# Altium schematic symbol library Schlib_IMX7.SchLib: 58 symbols
Pins are listed as number, name and electrical type; pins without a type are passive.

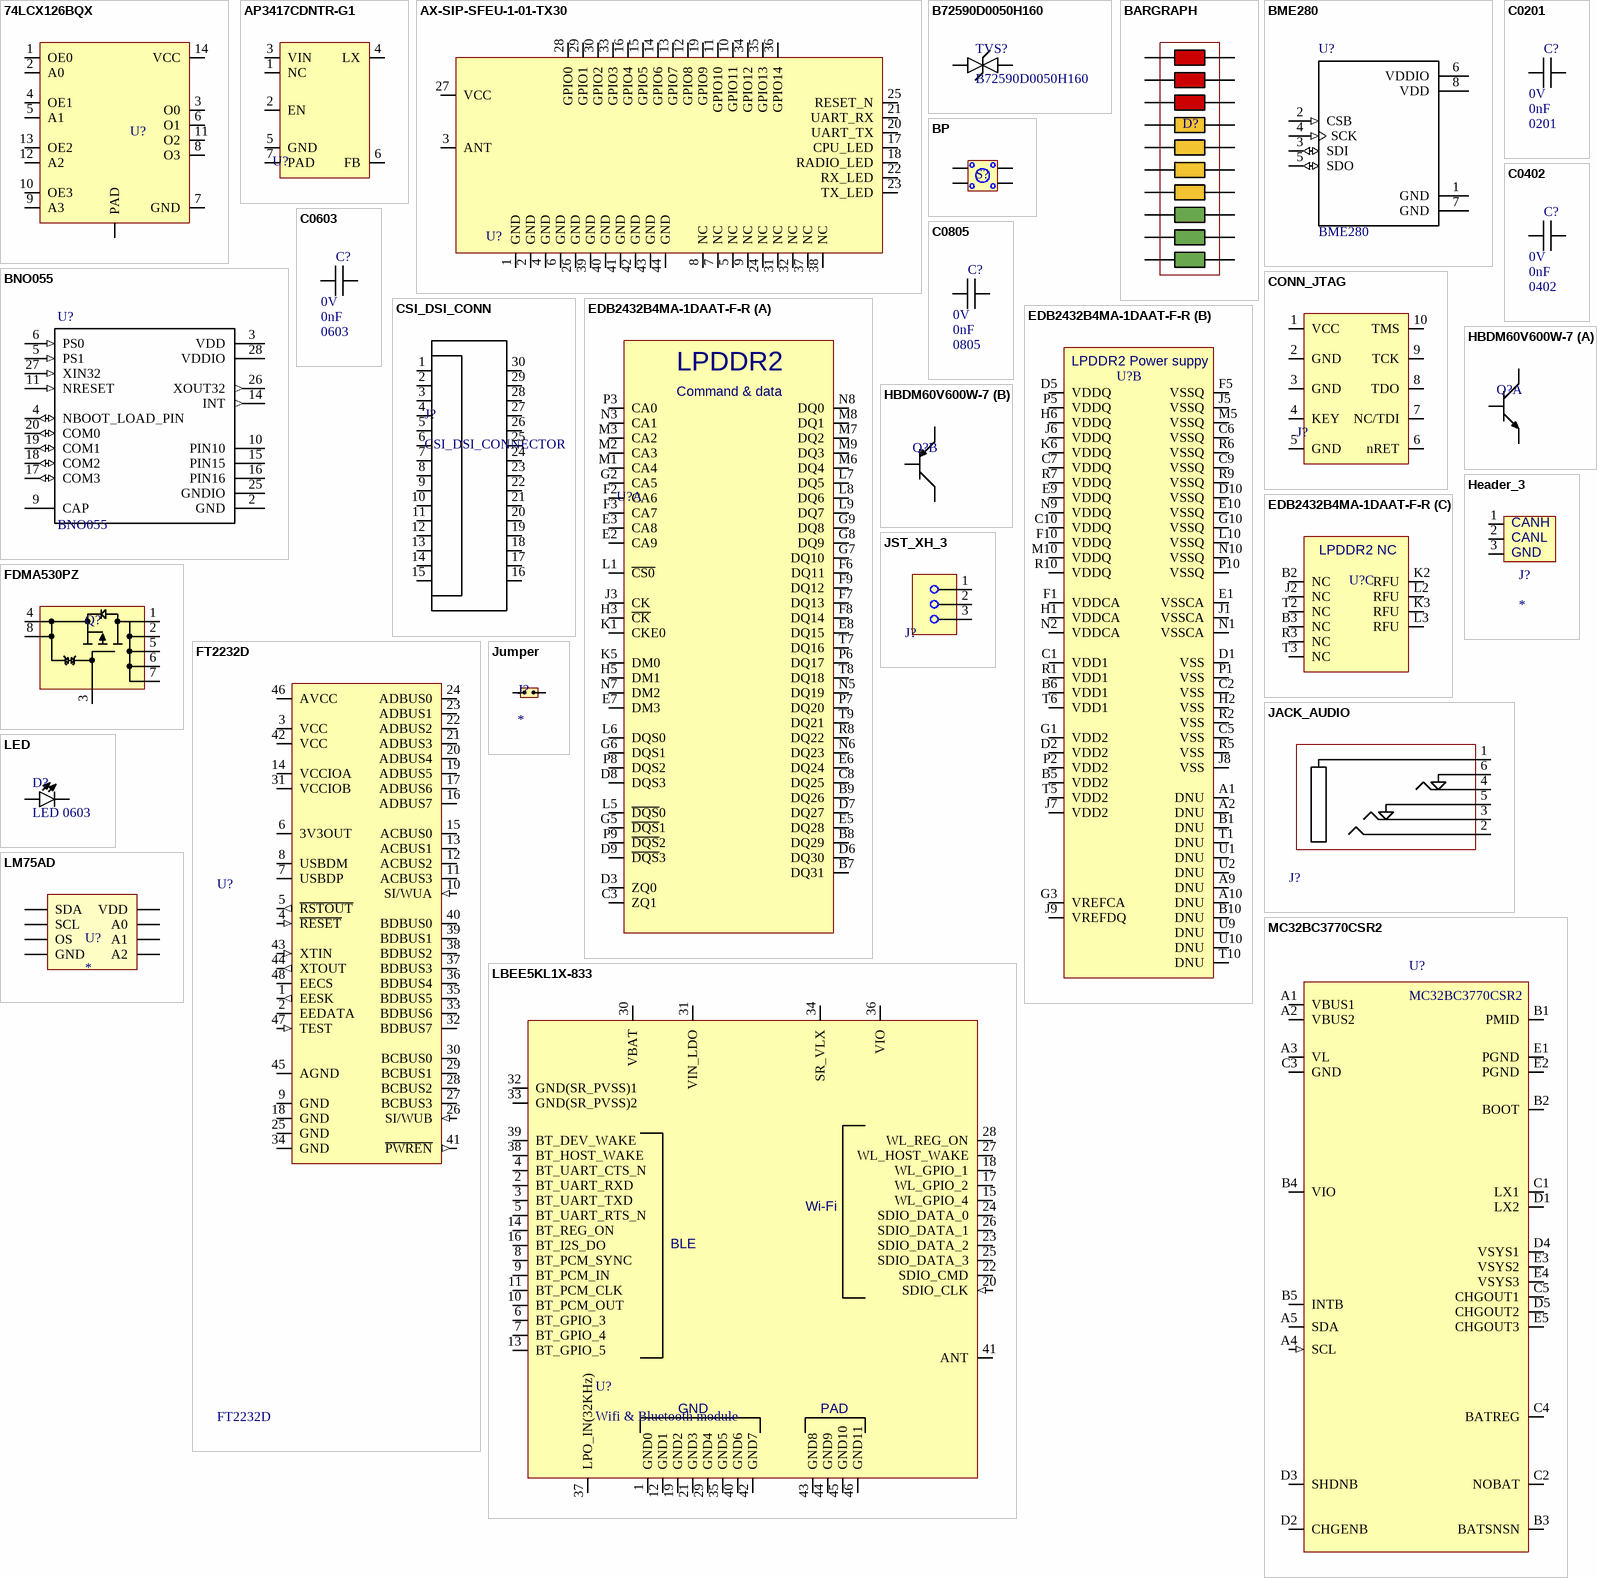
[diagram p0: symbols 74LCX126BQX to MC32BC3770CSR2]

## 74LCX126BQX
designator U?  (value not drawn)
footprint DQFN14
pins: 0 PAD, 1 OE0, 2 A0, 3 O0, 4 OE1, 5 A1, 6 O1, 7 GND, 8 O3, 9 A3, 10 OE3, 11 O2, 12 A2, 13 OE2, 14 VCC

## AP3417CDNTR-G1
designator U?  (value not drawn)
Supplier 1: Mouser; Supplier Part Number 1: 621-AP3417CDNTR-G1
footprint DFN2020
pins: 1 NC, 2 EN, 3 VIN, 4 LX, 5 GND, 6 FB, 7 PAD

## AX-SIP-SFEU-1-01-TX30
designator U?  (value not drawn)
footprint AX-SIP-SFEU-1-01-TX30
pins: 1 GND, 2 GND, 3 ANT  , 4 GND, 5 NC, 6 GND, 7 NC, 8 NC, 9 NC, 10 GPIO11, 11 GPIO10, 12 GPIO8, 13 GPIO7, 14 GPIO6, 15 GPIO5, 16 GPIO4, 17 CPU_LED, 18 RADIO_LED, 19 GPIO9, 20 UART_TX, 21 UART_RX, 22 RX_LED, 23 TX_LED, 24 NC, 25 RESET_N, 26 GND, 27 VCC, 28 GPIO0, 29 GPIO1, 30 GPIO2, 31 NC, 32 NC, 33 GPIO3, 34 GPIO12, 35 GPIO13, 36 GPIO14, 37 NC, 38 NC, 39 GND, 40 GND, 41 GND, 42 GND, 43 GND, 44 GND

## B72590D0050H160
designator TVS?
footprint R0402
pins: 1, 2

## BARGRAPH
designator D?  (value not drawn)
footprint BARGRAPH
pins: 1, 2, 3, 4, 5, 6, 7, 8, 9, 10, 11, 12, 13, 14, 15, 16, 17, 18, 19, 20

## BME280
designator U?
Integrated pressure, humidity and temperature sensor; 8-pin 2.5x2.5x0.93mm LGA; MF: Bosch; MP: BME280; Package: LGA-8 Bosch; Price: None; Availability: Unavailable; SnapEDA_Link: https://www.snapeda.com/parts/BME280/Bosch%20Sensortec/view-part/?ref=snap; Value: *
footprint PSON65P250X250X100-8N
pins: 1 GND (power), 2 CSB (in), 3 SDI (io), 4 SCK (in), 5 SDO (io), 6 VDDIO (power), 7 GND (power), 8 VDD (power)

## BNO055
designator U?
BNO055 9-axis Absolute Orientation Sensor _ SiP _ w/Sensors and Sensor Fusion; MF: Bosch; SnapEDA_Link: https://www.snapeda.com/parts/BNO055/Bosch%20Sensortec/view-part/?ref=snap; Availability: Unavailable; Price: None; MP: BNO055; Package: LGA-28 Bosch; Value: *
footprint LGA28R50P4X10_380X520X100
pins: 2 GND (power), 3 VDD (power), 4 NBOOT_LOAD_PIN (io), 5 PS1 (in), 6 PS0 (in), 9 CAP, 10 PIN10 (power), 11 NRESET (in), 14 INT (out), 15 PIN15 (power), 16 PIN16 (power), 17 COM3 (io), 18 COM2 (io), 19 COM1 (io), 20 COM0 (io), 25 GNDIO (power), 26 XOUT32 (out), 27 XIN32 (in), 28 VDDIO (power)

## BP
designator S?  (value not drawn)
Manufacturer: TE Connectivity (Tyco Electronics); Manufacturer Part Number: 1-1825027-4; Actuator Color: Ivory; Actuator Length: 3.55 mm; Body Orientation: Right Angle; Actuator Style: Round Button; Ground Terminal: No; Electrical Life: 100000 Cycles; Dielectric Strength: 500 VAC; Contact Rating @ Voltage: 0.05@24VDC A; Maximum DC Voltage Rating: 24 V; Pole Throw Configuration: SPST; Illumination Type: N/R; Maximum Contact Resistance: 100 mOhm; Operating Force: 1.57 N; Switch Configuration: OFF (ON); Contact Material: Copper Alloy; Base Material: N/A; Family: 1825027; Contact Plating: Silver; Housing Material: N/A; Dimension: 7.11 x 10.16 x 7.01 mm; Part No: 1-1825027-4; RoHS: Yes; Maximum AC Voltage Rating: N/A; Seal Description: N/A; Mechanical Life: N/A; Packaging: Loose Piece; Product Weight: N/A; Mounting: Through Hole,PC Pins; Minimum Insulation Resistance: 100 MOhm; Operating Temperature: -35 to 85 C; Type: Micro-Miniature; Seal Location: N/A; ComponentLink1URL: https://datasheet.ciiva.com/8164/eng-cd-1825027-g4-8164816.pdf; ComponentLink1Description: https://datasheet.ciiva.com/8164/eng-cd-1825027-g4-8164816.pdf; ComponentLink2URL: https://datasheet.ciiva.com/17550/eng-cd-1825027-g4-17550604.pdf; ComponentLink2Description: https://datasheet.ciiva.com/17550/eng-cd-1825027-g4-17550604.pdf
footprint BP
pins: 1, 2, 3, 4

## C0201
designator C?  value 0nF  PACKAGE: 0201  VOLTAGE: 0V
footprint C0201
pins: 1, 2

## C0402
designator C?  value 0nF  PACKAGE: 0402  VOLTAGE: 0V
footprint C0402
pins: 1, 2

## C0603
designator C?  value 0nF  PACKAGE: 0603  VOLTAGE: 0V
footprint C0603
pins: 1, 2

## C0805
designator C?  value 0nF  PACKAGE: 0805  VOLTAGE: 0V
footprint C0805
pins: 1, 2

## CONN_JTAG
designator J?  (value not drawn)
Supplier 1: Farnell; Supplier Part Number 1: 2112432
footprint JTAG_CONN
pins: 1 VCC, 2 GND, 3 GND, 4 KEY, 5 GND, 6 nRET, 7 NC/TDI, 8 TDO, 9 TCK, 10 TMS

## CSI_DSI_CONN
designator J?, comment CSI_DSI_CONNECTOR
footprint CSI_DSI
pins: 1, 2, 3, 4, 5, 6, 7, 8, 9, 10, 11, 12, 13, 14, 15, 16, 17, 18, 19, 20, 21, 22, 23, 24, 25, 26, 27, 28, 29, 30

## EDB2432B4MA-1DAAT-F-R
designator U?  (value not drawn)
footprint DDR_VFBGA
part A pins: B7 DQ31, B8 DQ29, B9 DQ26, C3 ZQ1, C8 DQ25, D3 ZQ0, D6 DQ30, D7 DQ27, D8 DQS3, D9 ~{DQS}3, E2 CA9, E3 CA8, E5 DQ28, E6 DQ24, E7 DM3, E8 DQ15, F2 CA6, F3 CA7, F6 DQ11, F7 DQ13, F8 DQ14, F9 DQ12, G2 CA5, G5 ~{DQS}1, G6 DQS1, G7 DQ10, G8 DQ9, G9 DQ8, H3 ~{CK}, H5 DM1, J3 CK, K1 CKE0, K5 DM0, L1 ~{CS0}, L5 ~{DQS}0, L6 DQS0, L7 DQ5, L8 DQ6, L9 DQ7, M1 CA4, M2 CA3, M3 CA2, M6 DQ4, M7 DQ2, M8 DQ1, M9 DQ3, N3 CA1, N5 DQ19, N6 DQ23, N7 DM2, N8 DQ0, P3 CA0, P6 DQ17, P7 DQ20, P8 DQS2, P9 ~{DQS}2, R8 DQ22, T7 DQ16, T8 DQ18, T9 DQ21
part B pins: A1 DNU, A2 DNU, A9 DNU, A10 DNU, B1 DNU, B5 VDD2, B6 VDD1, B10 DNU, C1 VDD1, C2 VSS, C5 VSS, C6 VSSQ, C7 VDDQ, C9 VSSQ, C10 VDDQ, D1 VSS, D2 VDD2, D5 VDDQ, D10 VSSQ, E1 VSSCA, E9 VDDQ, E10 VSSQ, F1 VDDCA, F5 VSSQ, F10 VDDQ, G1 VDD2, G3 VREFCA, G10 VSSQ, H1 VDDCA, H2 VSS, H6 VDDQ, J1 VSSCA, J5 VSSQ, J6 VDDQ, J7 VDD2, J8 VSS, J9 VREFDQ, K6 VDDQ, L10 VSSQ, M5 VSSQ, M10 VDDQ, N1 VSSCA, N2 VDDCA, N9 VDDQ, N10 VSSQ, P1 VSS, P2 VDD2, P5 VDDQ, P10 VSSQ, R1 VDD1, R2 VSS, R5 VSS, R6 VSSQ, R7 VDDQ, R9 VSSQ, R10 VDDQ, T1 DNU, T5 VDD2, T6 VDD1, T10 DNU, U1 DNU, U2 DNU, U9 DNU, U10 DNU
part C pins: B2 NC, B3 NC, J2 NC, K2 RFU, K3 RFU, L2 RFU, L3 RFU, R3 NC, T2 NC, T3 NC
part A text: LPDDR2; Command & data
part B text: LPDDR2 Power suppy
part C text: LPDDR2 NC

## FDMA530PZ
designator Q?  (value not drawn)
footprint MICROFET_2x2
pins: 1, 2, 3, 4, 5, 6, 7, 8

## FT2232D
designator U?
USB Full Speed to Dual Channel Serial UART/FIFO/JTAG/SPI/I2C IC - LQFP-48; MF: FTDI,; MP: FT2232D-REEL; SnapEDA_Link: https://www.snapeda.com/parts/FT2232D-REEL/FTDI%2C%20Future%20Technology%20Devices%20International%20Ltd/view-part/?ref=snap; Package: LQFP-48 FTDI; Digi-Key_Purchase_URL: https://www.digikey.com/product-detail/en/ftdi-future-technology-devices-international-ltd/FT2232D-REEL/768-1010-1-ND/1836405?utm_source=snapeda&utm_medium=aggregator&utm_campaign=symbol; Digi-Key_Part_Number: 768-1010-1-ND; Value: *
footprint LQFP48
pins: 1 EESK (out), 2 EEDATA (io), 3 VCC (power), 4 ~{RESET} (in), 5 ~{RSTOUT} (out), 6 3V3OUT (power), 7 USBDP (io), 8 USBDM (io), 9 GND (power), 10 SI/WUA (in), 11 ACBUS3 (io), 12 ACBUS2 (io), 13 ACBUS1 (io), 14 VCCIOA (power), 15 ACBUS0 (io), 16 ADBUS7 (io), 17 ADBUS6 (io), 18 GND (power), 19 ADBUS5 (io), 20 ADBUS4 (io), 21 ADBUS3 (io), 22 ADBUS2 (io), 23 ADBUS1 (io), 24 ADBUS0 (io), 25 GND (power), 26 SI/WUB (in), 27 BCBUS3 (io), 28 BCBUS2 (io), 29 BCBUS1 (io), 30 BCBUS0 (io), 31 VCCIOB (power), 32 BDBUS7 (io), 33 BDBUS6 (io), 34 GND (power), 35 BDBUS5 (io), 36 BDBUS4 (io), 37 BDBUS3 (io), 38 BDBUS2 (io), 39 BDBUS1 (io), 40 BDBUS0 (io), 41 ~{PWREN} (out), 42 VCC (power), 43 XTIN (in), 44 XTOUT (out), 45 AGND (power), 46 AVCC (power), 47 TEST (in), 48 EECS (io)

## HBDM60V600W-7
designator Q?  (value not drawn)
footprint SOT363
part A pins: 1 QB1, 5 EQ1, 6 CQ1
part B pins: 2 QB2, 3 CQ2, 4 EQ2

## Header_3
designator J?
footprint Header 3
pins: 1, 2, 3
text: CANH; CANL; GND

## JACK_AUDIO
designator J?  (value not drawn)
Supplier 1: Farnell; Supplier Part Number 1: 2613992
footprint JACK_AUDIO
pins: 1, 2, 3, 4, 5, 6

## JST_XH_3
designator J?  (value not drawn)
Supplier 1: Farnell; Supplier Part Number 1: 1516277
footprint JST-XH
pins: 1, 2, 3

## Jumper
designator J?
footprint Header 2
pins: 1, 2

## LBEE5KL1X-833
designator U?, comment Wifi & Bluetooth module
Supplier 1: Mouser; Supplier Part Number 1: 81-LBEE5KL1DX-883
footprint LBEE5KL1DX
pins: 1 GND0, 2 BT_UART_RXD, 3 BT_UART_TXD, 4 BT_UART_CTS_N, 5 BT_UART_RTS_N, 6 BT_GPIO_3, 7 BT_GPIO_4, 8 BT_PCM_SYNC, 9 BT_PCM_IN, 10 BT_PCM_OUT, 11 BT_PCM_CLK, 12 GND1, 13 BT_GPIO_5, 14 BT_REG_ON, 15 WL_GPIO_4, 16 BT_I2S_DO, 17 WL_GPIO_2, 18 WL_GPIO_1, 19 GND2, 20 SDIO_CLK (in), 21 GND3, 22 SDIO_CMD, 23 SDIO_DATA_2, 24 SDIO_DATA_0, 25 SDIO_DATA_3, 26 SDIO_DATA_1, 27 WL_HOST_WAKE, 28 WL_REG_ON, 29 GND4, 30 VBAT, 31 VIN_LDO, 32 GND(SR_PVSS)1, 33 GND(SR_PVSS)2, 34 SR_VLX, 35 GND5, 36 VIO, 37 LPO_IN(32KHz), 38 BT_HOST_WAKE, 39 BT_DEV_WAKE, 40 GND6, 41 ANT, 42 GND7, 43 GND8, 44 GND9, 45 GND10, 46 GND11
text: Wi-Fi; BLE; GND; PAD

## LED
designator D?, comment LED 0603
footprint D0603
pins: 1 A, 2 K

## LM75AD
designator U?
footprint SOIC 8
pins: 1 SDA, 2 SCL, 3 OS, 4 GND, 5 A2, 6 A1, 7 A0, 8 VDD

## MC32BC3770CSR2
designator U?
footprint BGA25x5
pins: A1 VBUS1, A2 VBUS2, A3 VL, A4 SCL (in), A5 SDA, B1 PMID, B2 BOOT, B3 BATSNSN, B4 VIO, B5 INTB, C1 LX1, C2 NOBAT, C3 GND, C4 BATREG, C5 CHGOUT1, D1 LX2, D2 CHGENB, D3 SHDNB, D4 VSYS1, D5 CHGOUT2, E1 PGND, E2 PGND, E3 VSYS2, E4 VSYS3, E5 CHGOUT3

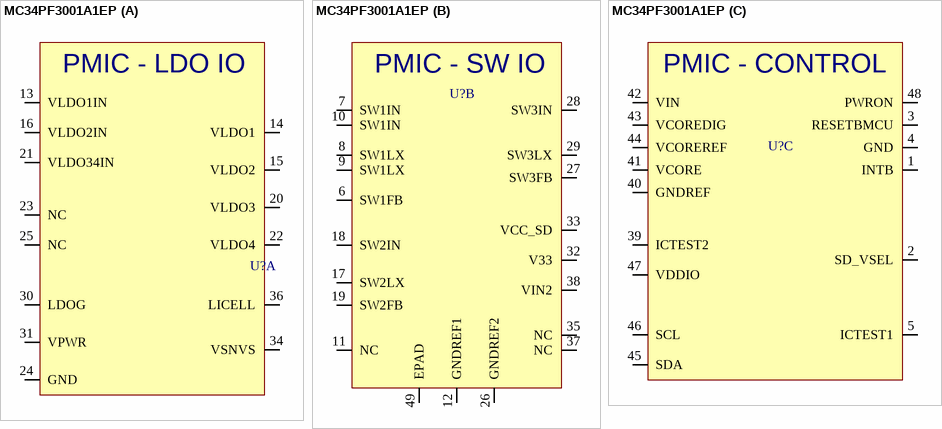
[diagram p1: symbol MC34PF3001A1EP]

## MC34PF3001A1EP
designator U?  (value not drawn)
Supplier 1: Mouser; Supplier Part Number 1: 841-MC34PF3001A1EP
footprint QFN48
part A pins: 13 VLDO1IN, 14 VLDO1, 15 VLDO2, 16 VLDO2IN, 20 VLDO3, 21 VLDO34IN, 22 VLDO4, 23 NC, 24 GND, 25 NC, 30 LDOG, 31 VPWR, 34 VSNVS, 36 LICELL
part B pins: 6 SW1FB, 7 SW1IN, 8 SW1LX, 9 SW1LX, 10 SW1IN, 11 NC, 12 GNDREF1, 17 SW2LX, 18 SW2IN, 19 SW2FB, 26 GNDREF2, 27 SW3FB, 28 SW3IN, 29 SW3LX, 32 V33, 33 VCC_SD, 35 NC, 37 NC, 38 VIN2, 49 EPAD
part C pins: 1 INTB, 2 SD_VSEL, 3 RESETBMCU, 4 GND, 5 ICTEST1, 39 ICTEST2, 40 GNDREF, 41 VCORE, 42 VIN, 43 VCOREDIG, 44 VCOREREF, 45 SDA, 46 SCL, 47 VDDIO, 48 PWRON
part A text: PMIC - LDO IO
part B text: PMIC - SW IO
part C text: PMIC - CONTROL

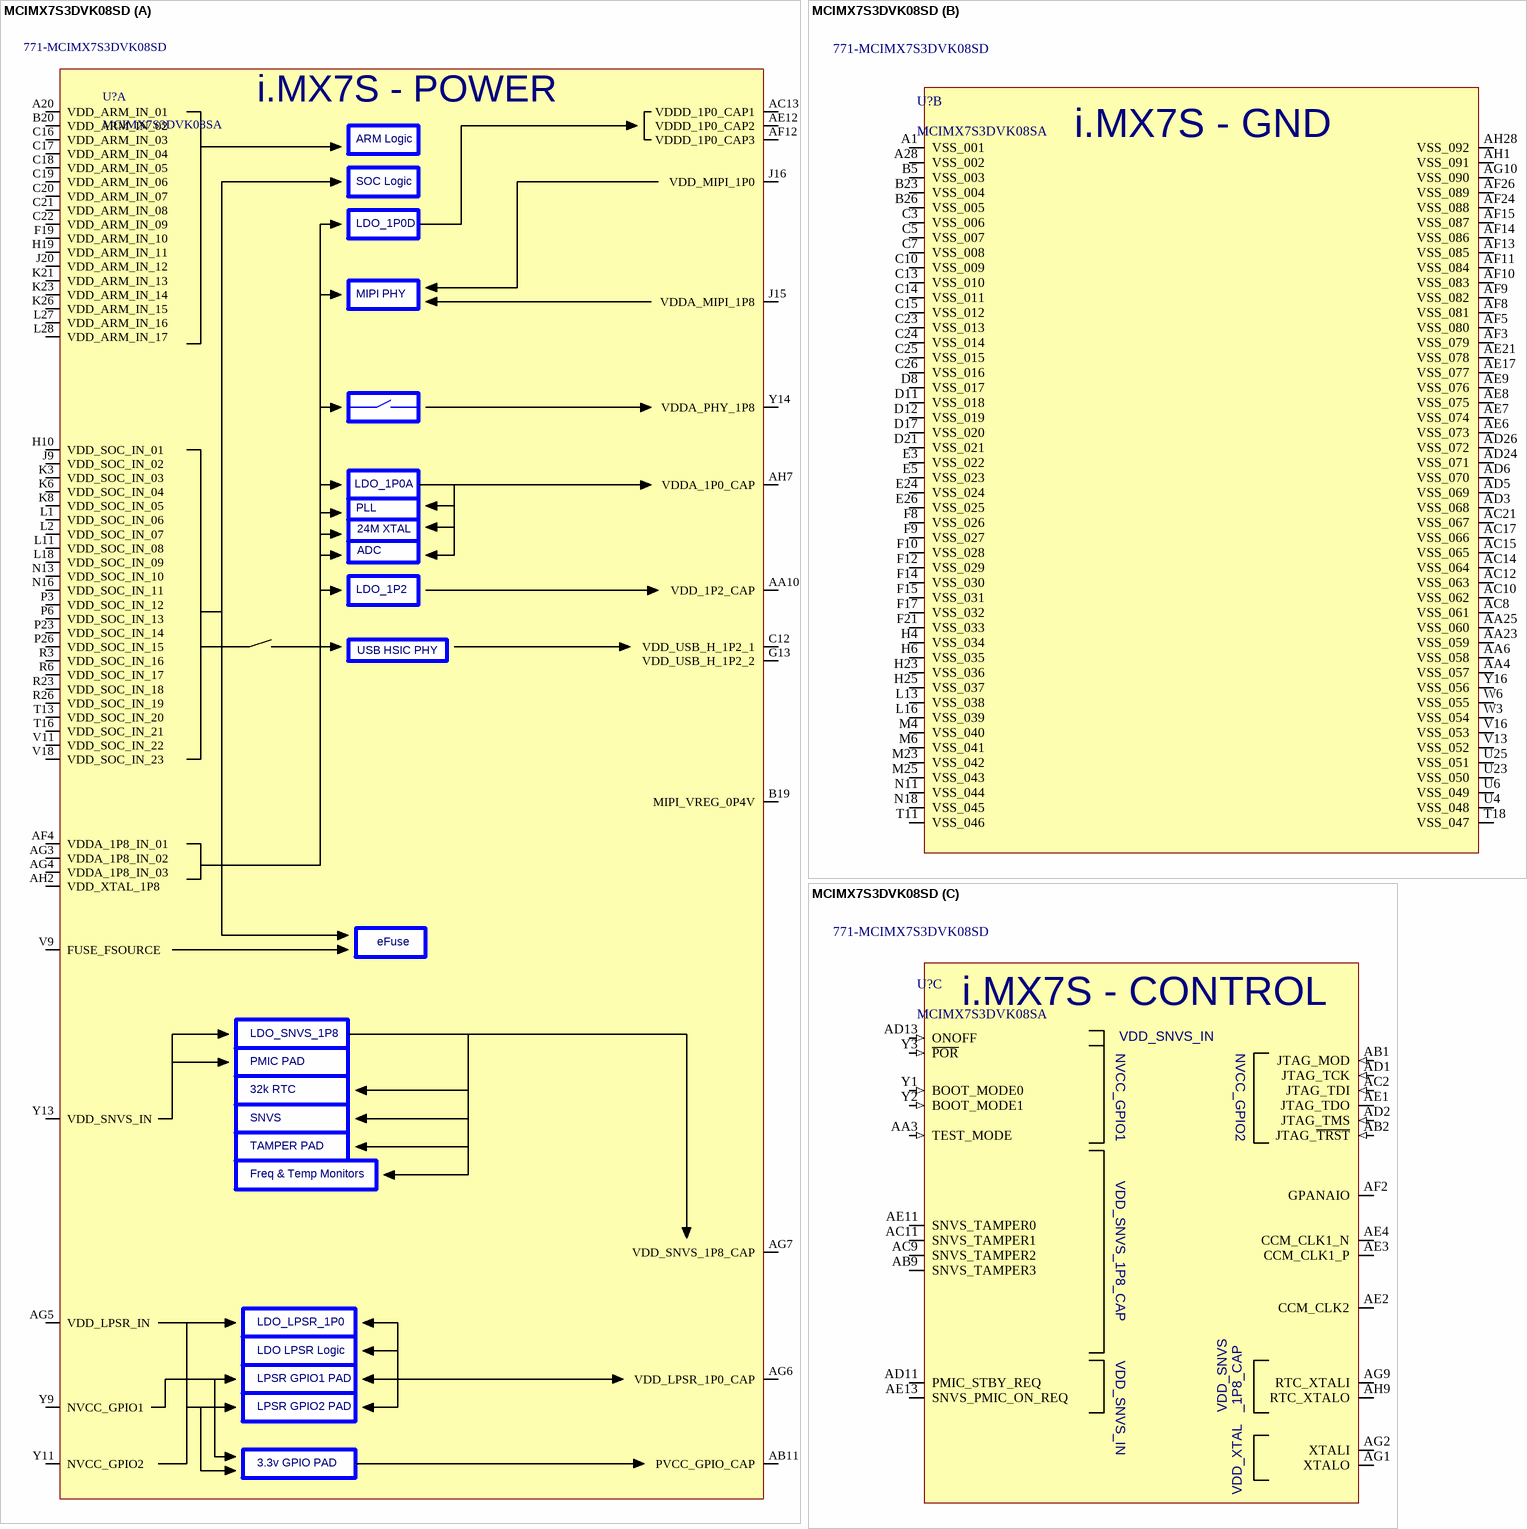
[diagram p2: symbol MCIMX7S3DVK08SD]

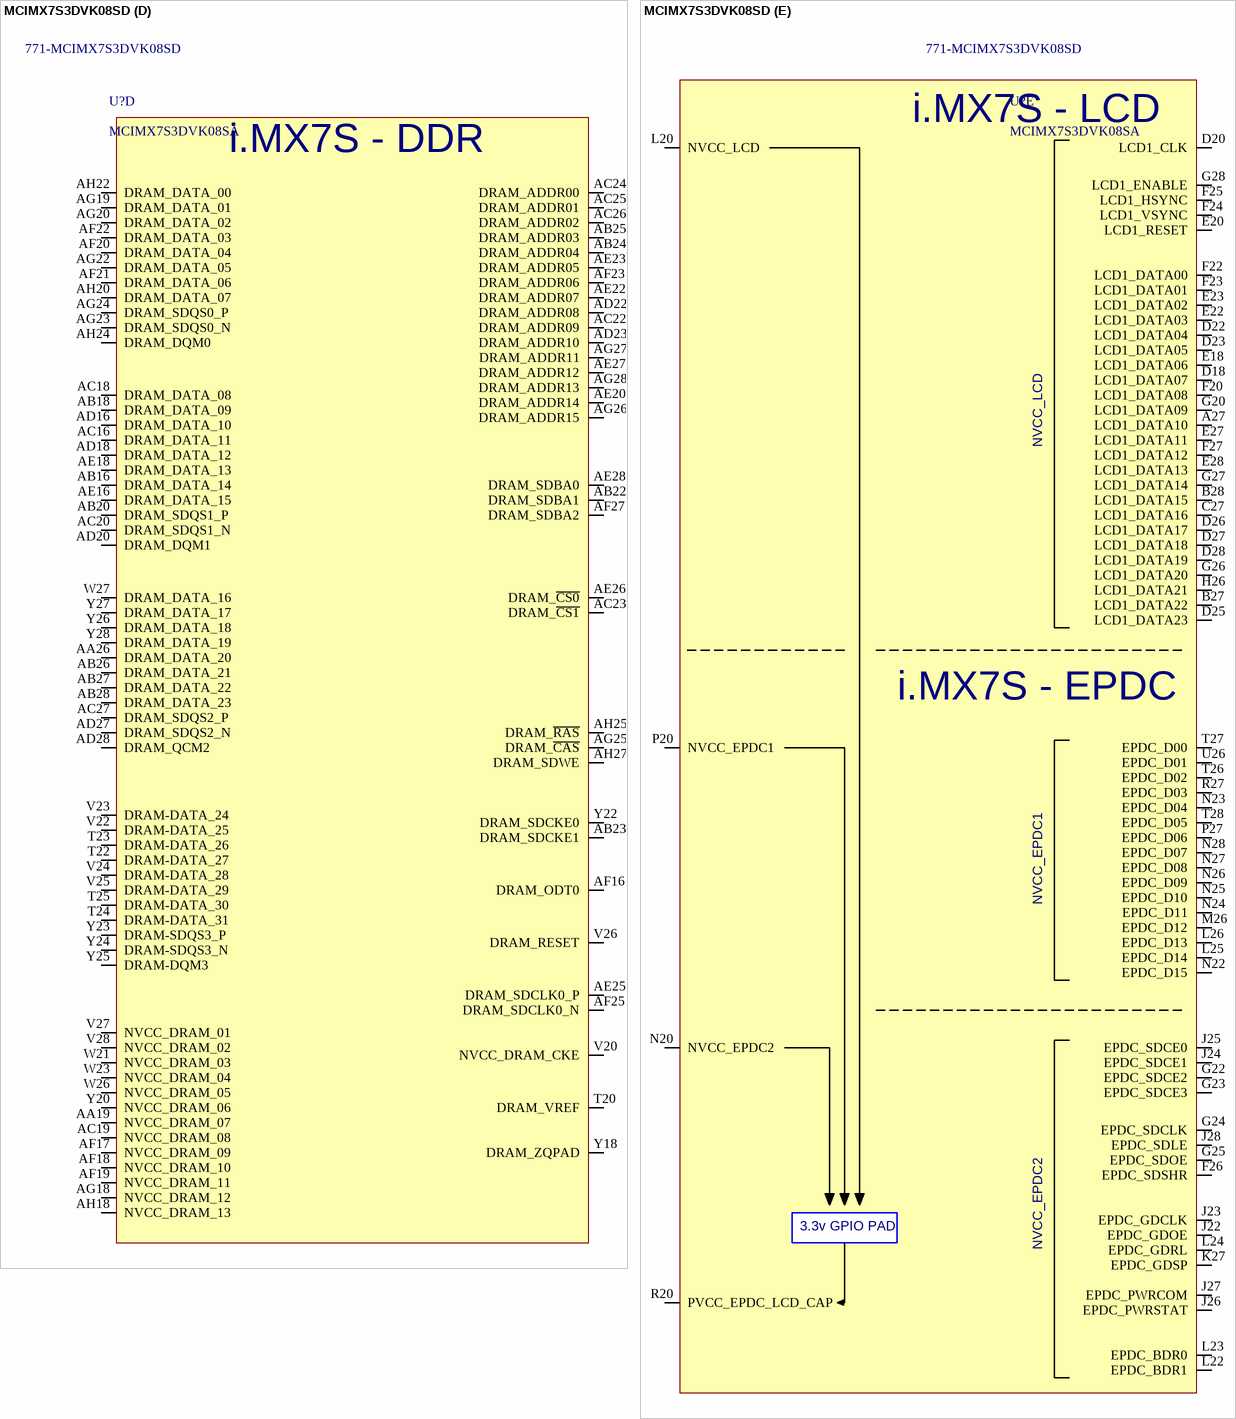
[diagram p3: symbol MCIMX7S3DVK08SD]

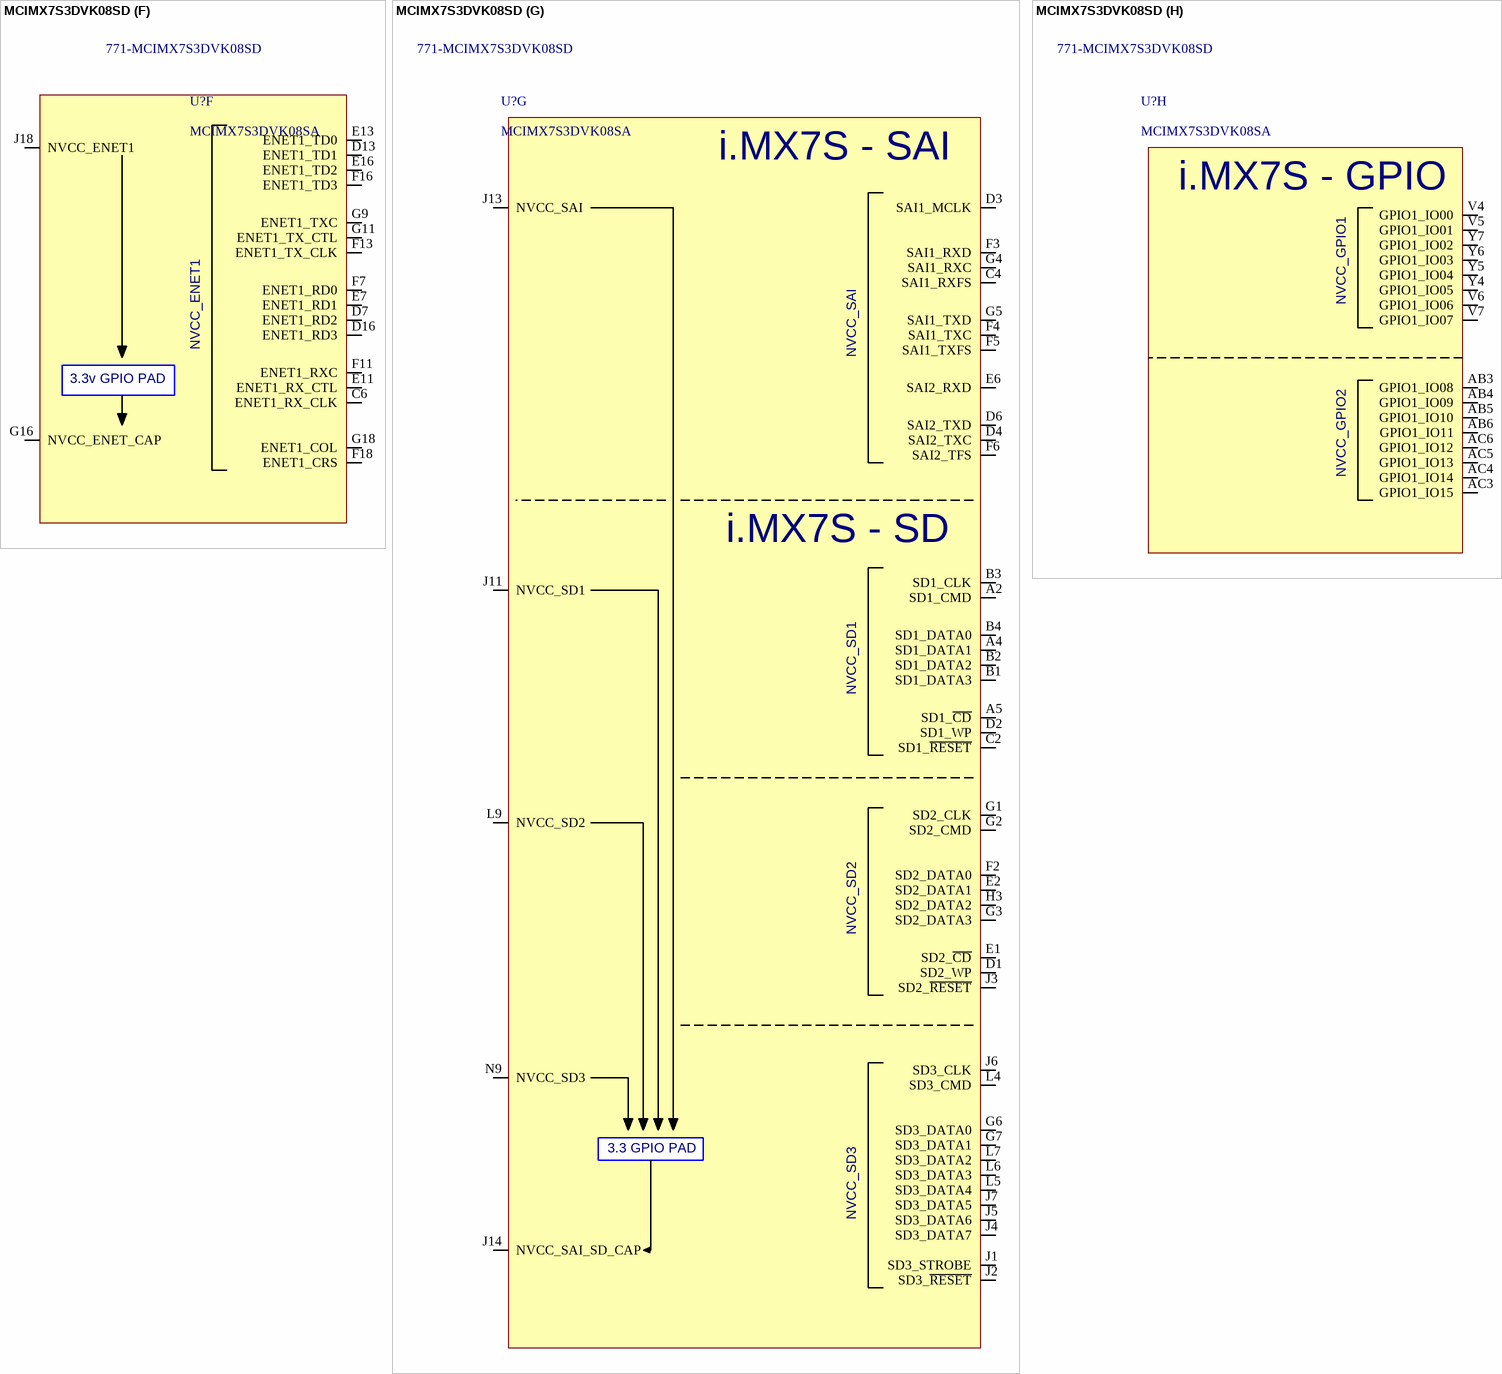
[diagram p4: symbol MCIMX7S3DVK08SD]

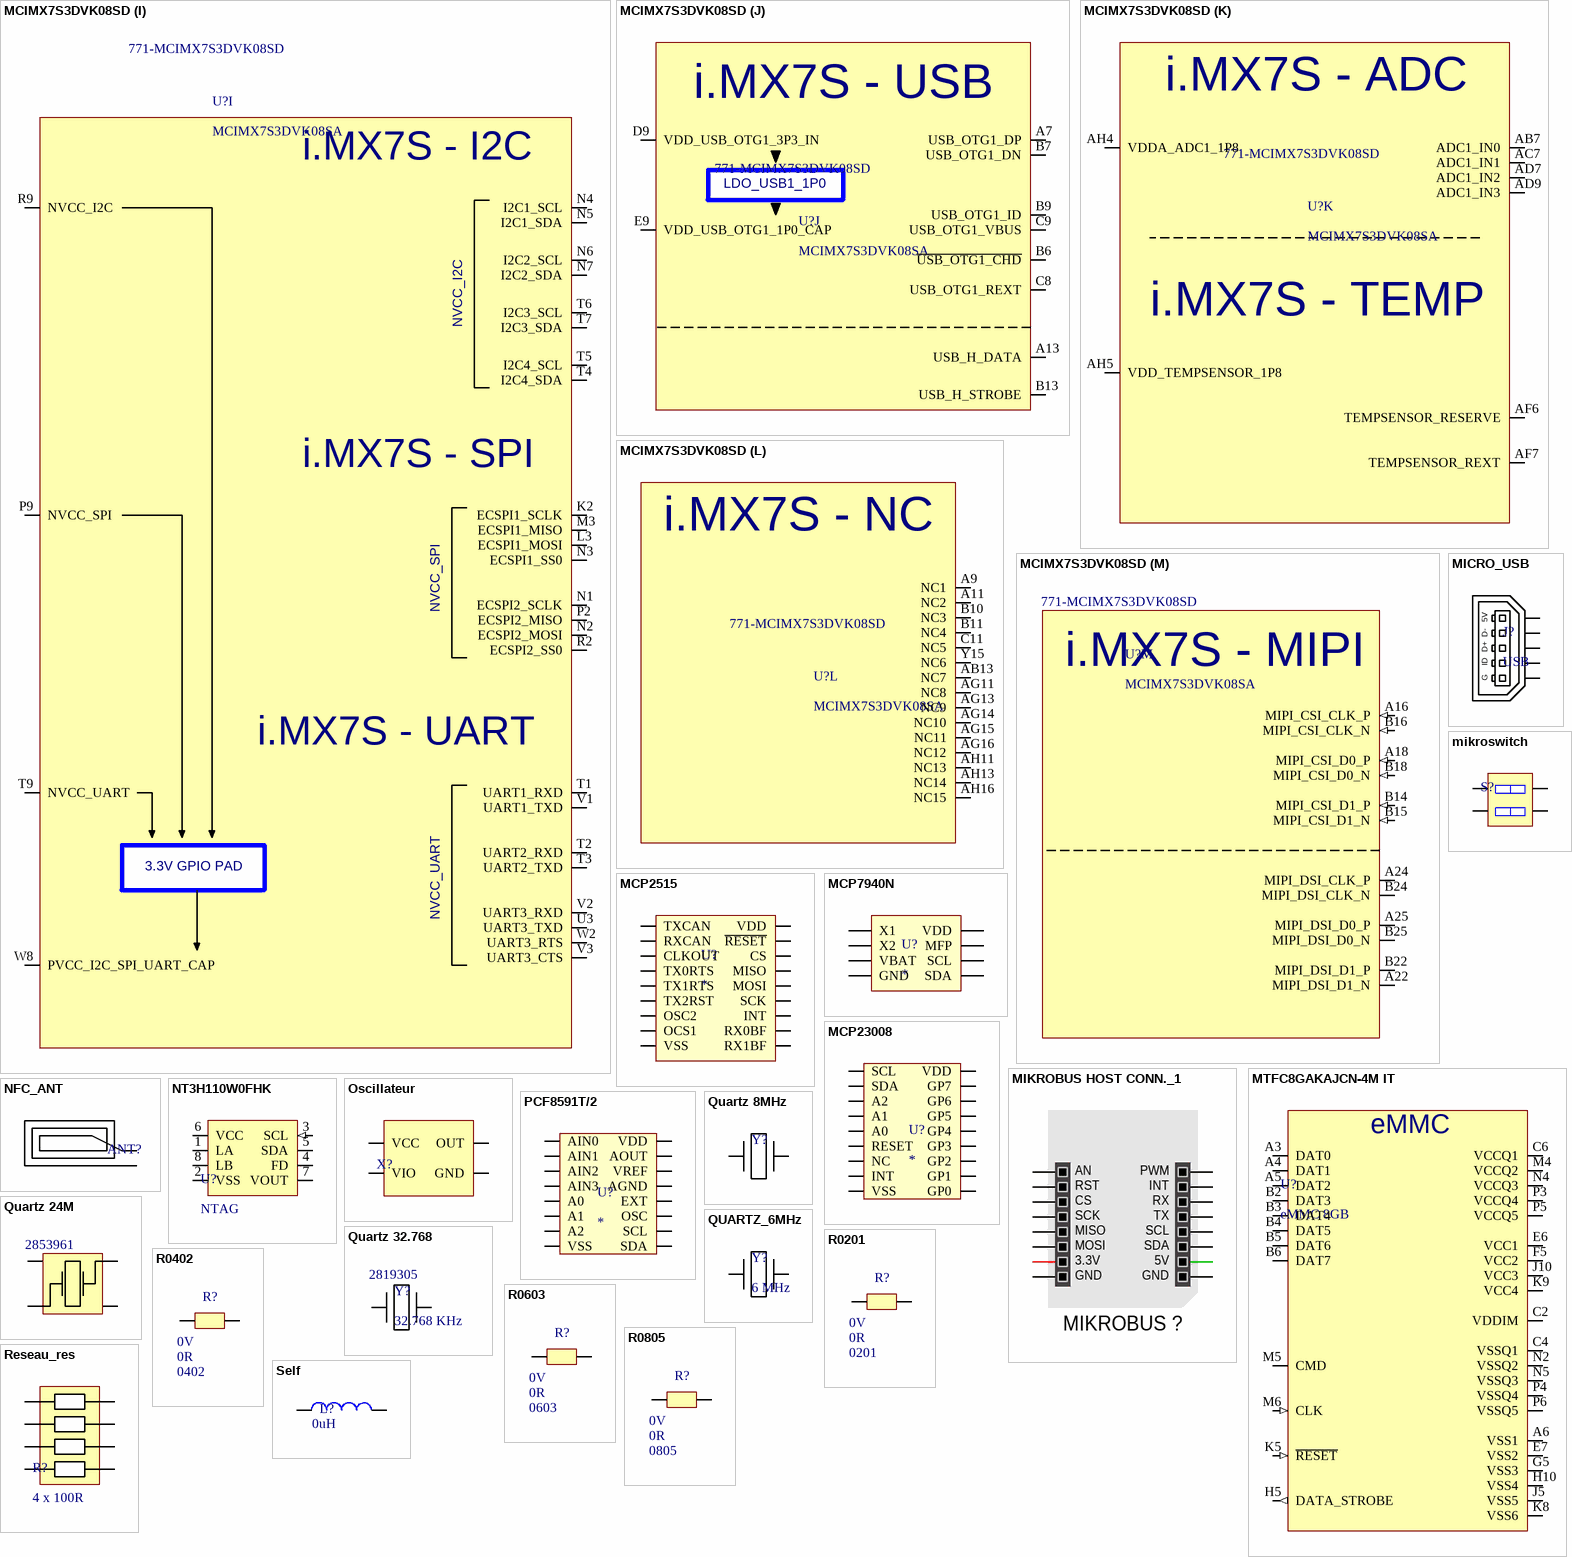
[diagram p5: symbols MCIMX7S3DVK08SD to Self]

## MCIMX7S3DVK08SD
designator U?, comment MCIMX7S3DVK08SA  Supplier Part Number 1: 771-MCIMX7S3DVK08SD
Supplier 1: Mouser
footprint BGA 488 PIN
part A pins: A20 VDD_ARM_IN_01, AA10 VDD_1P2_CAP, AB11 PVCC_GPIO_CAP, AC13 VDDD_1P0_CAP1, AE12 VDDD_1P0_CAP2, AF4 VDDA_1P8_IN_01, AF12 VDDD_1P0_CAP3, AG3 VDDA_1P8_IN_02, AG4 VDDA_1P8_IN_03, AG5 VDD_LPSR_IN, AG6 VDD_LPSR_1P0_CAP, AG7 VDD_SNVS_1P8_CAP, AH2 VDD_XTAL_1P8, AH7 VDDA_1P0_CAP, B19 MIPI_VREG_0P4V, B20 VDD_ARM_IN_02, C12 VDD_USB_H_1P2_1, C16 VDD_ARM_IN_03, C17 VDD_ARM_IN_04, C18 VDD_ARM_IN_05, C19 VDD_ARM_IN_06, C20 VDD_ARM_IN_07, C21 VDD_ARM_IN_08, C22 VDD_ARM_IN_09, F19 VDD_ARM_IN_10, G13 VDD_USB_H_1P2_2, H10 VDD_SOC_IN_01, H19 VDD_ARM_IN_11, J9 VDD_SOC_IN_02, J15 VDDA_MIPI_1P8, J16 VDD_MIPI_1P0, J20 VDD_ARM_IN_12, K3 VDD_SOC_IN_03, K6 VDD_SOC_IN_04, K8 VDD_SOC_IN_05, K21 VDD_ARM_IN_13, K23 VDD_ARM_IN_14, K26 VDD_ARM_IN_15, L1 VDD_SOC_IN_06, L2 VDD_SOC_IN_07, L11 VDD_SOC_IN_08, L18 VDD_SOC_IN_09, L27 VDD_ARM_IN_16, L28 VDD_ARM_IN_17, N13 VDD_SOC_IN_10, N16 VDD_SOC_IN_11, P3 VDD_SOC_IN_12, P6 VDD_SOC_IN_13, P23 VDD_SOC_IN_14, P26 VDD_SOC_IN_15, R3 VDD_SOC_IN_16, R6 VDD_SOC_IN_17, R23 VDD_SOC_IN_18, R26 VDD_SOC_IN_19, T13 VDD_SOC_IN_20, T16 VDD_SOC_IN_21, V9 FUSE_FSOURCE, V11 VDD_SOC_IN_22, V18 VDD_SOC_IN_23, Y9 NVCC_GPIO1, Y11 NVCC_GPIO2, Y13 VDD_SNVS_IN, Y14 VDDA_PHY_1P8
part B pins: A1 VSS_001, A28 VSS_002, AA4 VSS_057, AA6 VSS_058, AA23 VSS_059, AA25 VSS_060, AC8 VSS_061, AC10 VSS_062, AC12 VSS_063, AC14 VSS_064, AC15 VSS_065, AC17 VSS_066, AC21 VSS_067, AD3 VSS_068, AD5 VSS_069, AD6 VSS_070, AD24 VSS_071, AD26 VSS_072, AE6 VSS_073, AE7 VSS_074, AE8 VSS_075, AE9 VSS_076, AE17 VSS_077, AE21 VSS_078, AF3 VSS_079, AF5 VSS_080, AF8 VSS_081, AF9 VSS_082, AF10 VSS_083, AF11 VSS_084, AF13 VSS_085, AF14 VSS_086, AF15 VSS_087, AF24 VSS_088, AF26 VSS_089, AG10 VSS_090, AH1 VSS_091, AH28 VSS_092, B5 VSS_003, B23 VSS_004, B26 VSS_005, C3 VSS_006, C5 VSS_007, C7 VSS_008, C10 VSS_009, C13 VSS_010, C14 VSS_011, C15 VSS_012, C23 VSS_013, C24 VSS_014, C25 VSS_015, C26 VSS_016, D8 VSS_017, D11 VSS_018, D12 VSS_019, D17 VSS_020, D21 VSS_021, E3 VSS_022, E5 VSS_023, E24 VSS_024, E26 VSS_025, F8 VSS_026, F9 VSS_027, F10 VSS_028, F12 VSS_029, F14 VSS_030, F15 VSS_031, F17 VSS_032, F21 VSS_033, H4 VSS_034, H6 VSS_035, H23 VSS_036, H25 VSS_037, L13 VSS_038, L16 VSS_039, M4 VSS_040, M6 VSS_041, M23 VSS_042, M25 VSS_043, N11 VSS_044, N18 VSS_045, T11 VSS_046, T18 VSS_047, U4 VSS_048, U6 VSS_049, U23 VSS_050, U25 VSS_051, V13 VSS_052, V16 VSS_053, W3 VSS_054, W6 VSS_055, Y16 VSS_056
part C pins: AA3 TEST_MODE (in), AB1 JTAG_MOD (in), AB2 JTAG_~{TRST} (in), AB9 SNVS_TAMPER3, AC2 JTAG_TDI (in), AC9 SNVS_TAMPER2, AC11 SNVS_TAMPER1, AD1 JTAG_TCK (in), AD2 JTAG_TMS (in), AD11 PMIC_STBY_REQ, AD13 ONOFF (in), AE1 JTAG_TDO, AE2 CCM_CLK2, AE3 CCM_CLK1_P, AE4 CCM_CLK1_N, AE11 SNVS_TAMPER0, AE13 SNVS_PMIC_ON_REQ, AF2 GPANAIO, AG1 XTALO, AG2 XTALI, AG9 RTC_XTALI, AH9 RTC_XTALO, Y1 BOOT_MODE0 (in), Y2 BOOT_MODE1 (in), Y3 ~{POR} (in)
part D pins: AA19 NVCC_DRAM_07, AA26 DRAM_DATA_20, AB16 DRAM_DATA_14, AB18 DRAM_DATA_09, AB20 DRAM_SDQS1_P, AB22 DRAM_SDBA1, AB23 DRAM_SDCKE1, AB24 DRAM_ADDR04, AB25 DRAM_ADDR03, AB26 DRAM_DATA_21, AB27 DRAM_DATA_22, AB28 DRAM_DATA_23, AC16 DRAM_DATA_11, AC18 DRAM_DATA_08, AC19 NVCC_DRAM_08, AC20 DRAM_SDQS1_N, AC22 DRAM_ADDR09, AC23 DRAM_~{CS1}, AC24 DRAM_ADDR00, AC25 DRAM_ADDR01, AC26 DRAM_ADDR02, AC27 DRAM_SDQS2_P, AD16 DRAM_DATA_10, AD18 DRAM_DATA_12, AD20 DRAM_DQM1, AD22 DRAM_ADDR08, AD23 DRAM_ADDR10, AD27 DRAM_SDQS2_N, AD28 DRAM_QCM2, AE16 DRAM_DATA_15, AE18 DRAM_DATA_13, AE20 DRAM_ADDR14, AE22 DRAM_ADDR07, AE23 DRAM_ADDR05, AE25 DRAM_SDCLK0_P, AE26 DRAM_~{CS0}, AE27 DRAM_ADDR12, AE28 DRAM_SDBA0, AF16 DRAM_ODT0, AF17 NVCC_DRAM_09, AF18 NVCC_DRAM_10, AF19 NVCC_DRAM_11, AF20 DRAM_DATA_04, AF21 DRAM_DATA_06, AF22 DRAM_DATA_03, AF23 DRAM_ADDR06, AF25 DRAM_SDCLK0_N, AF27 DRAM_SDBA2, AG18 NVCC_DRAM_12, AG19 DRAM_DATA_01, AG20 DRAM_DATA_02, AG22 DRAM_DATA_05, AG23 DRAM_SDQS0_N, AG24 DRAM_SDQS0_P, AG25 DRAM_~{CAS}, AG26 DRAM_ADDR15, AG27 DRAM_ADDR11, AG28 DRAM_ADDR13, AH18 NVCC_DRAM_13, AH20 DRAM_DATA_07, AH22 DRAM_DATA_00, AH24 DRAM_DQM0, AH25 DRAM_~{RAS}, AH27 DRAM_SDWE, T20 DRAM_VREF, T22 DRAM-DATA_27, T23 DRAM-DATA_26, T24 DRAM-DATA_31, T25 DRAM-DATA_30, V20 NVCC_DRAM_CKE, V22 DRAM-DATA_25, V23 DRAM-DATA_24, V24 DRAM-DATA_28, V25 DRAM-DATA_29, V26 DRAM_RESET, V27 NVCC_DRAM_01, V28 NVCC_DRAM_02, W21 NVCC_DRAM_03, W23 NVCC_DRAM_04, W26 NVCC_DRAM_05, W27 DRAM_DATA_16, Y18 DRAM_ZQPAD, Y20 NVCC_DRAM_06, Y22 DRAM_SDCKE0, Y23 DRAM-SDQS3_P, Y24 DRAM-SDQS3_N, Y25 DRAM-DQM3, Y26 DRAM_DATA_18, Y27 DRAM_DATA_17, Y28 DRAM_DATA_19
part E pins: A27 LCD1_DATA10, B27 LCD1_DATA22, B28 LCD1_DATA15, C27 LCD1_DATA16, D18 LCD1_DATA07, D20 LCD1_CLK, D22 LCD1_DATA04, D23 LCD1_DATA05, D25 LCD1_DATA23, D26 LCD1_DATA17, D27 LCD1_DATA18, D28 LCD1_DATA19, E18 LCD1_DATA06, E20 LCD1_RESET, E22 LCD1_DATA03, E23 LCD1_DATA02, E27 LCD1_DATA11, E28 LCD1_DATA13, F20 LCD1_DATA08, F22 LCD1_DATA00, F23 LCD1_DATA01, F24 LCD1_VSYNC, F25 LCD1_HSYNC, F26 EPDC_SDSHR, F27 LCD1_DATA12, G20 LCD1_DATA09, G22 EPDC_SDCE2, G23 EPDC_SDCE3, G24 EPDC_SDCLK, G25 EPDC_SDOE, G26 LCD1_DATA20, G27 LCD1_DATA14, G28 LCD1_ENABLE, H26 LCD1_DATA21, J22 EPDC_GDOE, J23 EPDC_GDCLK, J24 EPDC_SDCE1, J25 EPDC_SDCE0, J26 EPDC_PWRSTAT, J27 EPDC_PWRCOM, J28 EPDC_SDLE, K27 EPDC_GDSP, L20 NVCC_LCD, L22 EPDC_BDR1, L23 EPDC_BDR0, L24 EPDC_GDRL, L25 EPDC_D14, L26 EPDC_D13, M26 EPDC_D12, N20 NVCC_EPDC2, N22 EPDC_D15, N23 EPDC_D04, N24 EPDC_D11, N25 EPDC_D10, N26 EPDC_D09, N27 EPDC_D08, N28 EPDC_D07, P20 NVCC_EPDC1, P27 EPDC_D06, R20 PVCC_EPDC_LCD_CAP, R27 EPDC_D03, T26 EPDC_D02, T27 EPDC_D00, T28 EPDC_D05, U26 EPDC_D01
part F pins: C6 ENET1_RX_CLK, D7 ENET1_RD2, D13 ENET1_TD1, D16 ENET1_RD3, E7 ENET1_RD1, E11 ENET1_RX_CTL, E13 ENET1_TD0, E16 ENET1_TD2, F7 ENET1_RD0, F11 ENET1_RXC, F13 ENET1_TX_CLK, F16 ENET1_TD3, F18 ENET1_CRS, G9 ENET1_TXC, G11 ENET1_TX_CTL, G16 NVCC_ENET_CAP, G18 ENET1_COL, J18 NVCC_ENET1
part G pins: A2 SD1_CMD, A4 SD1_DATA1, A5 SD1_~{CD}, B1 SD1_DATA3, B2 SD1_DATA2, B3 SD1_CLK, B4 SD1_DATA0, C2 SD1_~{RESET}, C4 SAI1_RXFS, D1 SD2_WP, D2 SD1_WP, D3 SAI1_MCLK, D4 SAI2_TXC, D6 SAI2_TXD, E1 SD2_~{CD}, E2 SD2_DATA1, E6 SAI2_RXD, F2 SD2_DATA0, F3 SAI1_RXD, F4 SAI1_TXC, F5 SAI1_TXFS, F6 SAI2_TFS, G1 SD2_CLK, G2 SD2_CMD, G3 SD2_DATA3, G4 SAI1_RXC, G5 SAI1_TXD, G6 SD3_DATA0, G7 SD3_DATA1, H3 SD2_DATA2, J1 SD3_STROBE, J2 SD3_~{RESET}, J3 SD2_~{RESET}, J4 SD3_DATA7, J5 SD3_DATA6, J6 SD3_CLK, J7 SD3_DATA5, J11 NVCC_SD1, J13 NVCC_SAI, J14 NVCC_SAI_SD_CAP, L4 SD3_CMD, L5 SD3_DATA4, L6 SD3_DATA3, L7 SD3_DATA2, L9 NVCC_SD2, N9 NVCC_SD3
part H pins: AB3 GPIO1_IO08, AB4 GPIO1_IO09, AB5 GPIO1_IO10, AB6 GPIO1_IO11, AC3 GPIO1_IO15, AC4 GPIO1_IO14, AC5 GPIO1_IO13, AC6 GPIO1_IO12, V4 GPIO1_IO00, V5 GPIO1_IO01, V6 GPIO1_IO06, V7 GPIO1_IO07, Y4 GPIO1_IO05, Y5 GPIO1_IO04, Y6 GPIO1_IO03, Y7 GPIO1_IO02
part I pins: K2 ECSPI1_SCLK, L3 ECSPI1_MOSI, M3 ECSPI1_MISO, N1 ECSPI2_SCLK, N2 ECSPI2_MOSI, N3 ECSPI1_SS0, N4 I2C1_SCL, N5 I2C1_SDA, N6 I2C2_SCL, N7 I2C2_SDA, P2 ECSPI2_MISO, P9 NVCC_SPI, R2 ECSPI2_SS0, R9 NVCC_I2C, T1 UART1_RXD, T2 UART2_RXD, T3 UART2_TXD, T4 I2C4_SDA, T5 I2C4_SCL, T6 I2C3_SCL, T7 I2C3_SDA, T9 NVCC_UART, U3 UART3_TXD, V1 UART1_TXD, V2 UART3_RXD, V3 UART3_CTS, W2 UART3_RTS, W8 PVCC_I2C_SPI_UART_CAP
part J pins: A7 USB_OTG1_DP, A13 USB_H_DATA, B6 ~{USB_OTG1_CHD}, B7 USB_OTG1_DN, B9 USB_OTG1_ID, B13 USB_H_STROBE, C8 USB_OTG1_REXT, C9 USB_OTG1_VBUS, D9 VDD_USB_OTG1_3P3_IN, E9 VDD_USB_OTG1_1P0_CAP
part K pins: AB7 ADC1_IN0, AC7 ADC1_IN1, AD7 ADC1_IN2, AD9 ADC1_IN3, AF6 TEMPSENSOR_RESERVE, AF7 TEMPSENSOR_REXT, AH4 VDDA_ADC1_1P8, AH5 VDD_TEMPSENSOR_1P8
part L pins: A9 NC1, A11 NC2, AB13 NC7, AG11 NC8, AG13 NC9, AG14 NC10, AG15 NC11, AG16 NC12, AH11 NC13, AH13 NC14, AH16 NC15, B10 NC3, B11 NC4, C11 NC5, Y15 NC6
part M pins: A16 MIPI_CSI_CLK_P (in), A18 MIPI_CSI_D0_P (in), A22 MIPI_DSI_D1_N, A24 MIPI_DSI_CLK_P, A25 MIPI_DSI_D0_P, B14 MIPI_CSI_D1_P (in), B15 MIPI_CSI_D1_N (in), B16 MIPI_CSI_CLK_N (in), B18 MIPI_CSI_D0_N (in), B22 MIPI_DSI_D1_P, B24 MIPI_DSI_CLK_N, B25 MIPI_DSI_D0_N
part A text: i.MX7S - POWER; ARM Logic; SOC Logic; LDO_1P0D; MIPI PHY; LDO_1P0A; PLL; 24M XTAL; ADC; LDO_1P2; USB HSIC PHY; eFuse; LDO_SNVS_1P8; PMIC PAD; 32k RTC; SNVS; TAMPER PAD; Freq & Temp Monitors; LDO_LPSR_1P0; LDO LPSR Logic; LPSR GPIO1 PAD; LPSR GPIO2 PAD; 3.3v GPIO PAD
part B text: i.MX7S - GND
part C text: i.MX7S - CONTROL; VDD_SNVS; _1P8_CAP; VDD_XTAL
part D text: i.MX7S - DDR
part E text: i.MX7S - LCD; i.MX7S - EPDC; 3.3v GPIO PAD
part F text: 3.3v GPIO PAD
part G text: i.MX7S - SAI; i.MX7S - SD; 3.3 GPIO PAD
part H text: i.MX7S - GPIO
part I text: i.MX7S - I2C; i.MX7S - SPI; i.MX7S - UART; 3.3V GPIO PAD
part J text: i.MX7S - USB; LDO_USB1_1P0
part K text: i.MX7S - ADC; i.MX7S - TEMP
part L text: i.MX7S - NC
part M text: i.MX7S - MIPI

## MCP2515
designator U?
footprint SOIC 18
pins: 1 TXCAN, 2 RXCAN, 3 CLKOUT, 4 TX0RTS, 5 TX1RTS, 6 TX2RST, 7 OSC2, 8 OCS1, 9 VSS, 10 RX1BF, 11 RX0BF, 12 INT, 13 SCK, 14 MOSI, 15 MISO, 16 CS, 17 ~{RESET}, 18 VDD

## MCP7940N
designator U?
footprint SOIC 8
pins: 1 X1, 2 X2, 3 VBAT, 4 GND, 5 SDA, 6 SCL, 7 MFP, 8 VDD

## MCP23008
designator U?
footprint SOIC 18
pins: 1 SCL, 2 SDA, 3 A2, 4 A1, 5 A0, 6 RESET, 7 NC, 8 INT, 9 VSS, 10 GP0, 11 GP1, 12 GP2, 13 GP3, 14 GP4, 15 GP5, 16 GP6, 17 GP7, 18 VDD

## MICRO_USB
designator J?, comment USB
footprint MICRO_USB
pins: 1 5V, 2 D-, 3 D+, 4 ID, 5 GND
text: G

## MIKROBUS HOST CONN._1
designator MIKROBUS ?, comment MIKROBUS HOST CONN.  (value not drawn)
mikroBUS Host Socket; SMD: No
footprint MIKROBUS HOST CONN.
pins: 1 AN, 2 RST, 3 CS, 4 SCK, 5 MISO, 6 MOSI, 7 3.3V, 8 GND, 9 GND, 10 5V, 11 SDA, 12 SCL, 13 TX, 14 RX, 15 INT, 16 PWM

## mikroswitch
designator S?  (value not drawn)
footprint DIP_SWITCH
pins: 1, 2, 3, 4

## MTFC8GAKAJCN-4M IT
designator U?, comment eMMC 8GB
footprint VFBGA
pins: A3 DAT0, A4 DAT1, A5 DAT2, A6 VSS1, B2 DAT3, B3 DAT4, B4 DAT5, B5 DAT6, B6 DAT7, C2 VDDIM, C4 VSSQ1, C6 VCCQ1, E6 VCC1, E7 VSS2, F5 VCC2, G5 VSS3, H5 DATA_STROBE (out), H10 VSS4, J5 VSS5, J10 VCC3, K5 ~{RESET} (in), K8 VSS6, K9 VCC4, M4 VCCQ2, M5 CMD, M6 CLK (in), N2 VSSQ2, N4 VCCQ3, N5 VSSQ3, P3 VCCQ4, P4 VSSQ4, P5 VCCQ5, P6 VSSQ5
text: eMMC

## NFC_ANT
designator ANT?  (value not drawn)
footprint NFC Antenna
pins: 1 GND, 2 GND

## NT3H110W0FHK
designator U?, comment NTAG
footprint TSSOP8
pins: 1 LA, 2 VSS, 3 SCL (in), 4 FD, 5 SDA, 6 VCC, 7 VOUT, 8 LB

## Oscillateur
designator X?, comment X1B0002110001 SG-3030CM 32.768KHZ B  (value not drawn)
footprint SPXO
pins: 1 VIO, 2 GND, 3 OUT, 4 VCC

## PCF8591T/2
designator U?
footprint SOIC 16
pins: 1 AIN0, 2 AIN1, 3 AIN2, 4 AIN3, 5 A0, 6 A1, 7 A2, 8 VSS, 9 SDA, 10 SCL, 11 OSC, 12 EXT, 13 AGND, 14 VREF, 15 AOUT, 16 VDD

## Quartz 8MHz
designator Y?  (value not drawn)
Supplier 1: Farnell; Supplier Part Number 1: 2467757
footprint HC49
pins: 1, 2

## Quartz 24M
designator Y?, comment Supplier Part Number 1: 2853961  (hidden comment: 24 MHz)
Supplier 1: Farnell
footprint 3225 Crystal
pins: 1, 2, 3, 4

## Quartz 32.768
designator Y?, comment 32.768 KHz  Supplier Part Number 1: 2819305
Supplier 1: Farnell
footprint ABS07
pins: 1, 2

## QUARTZ_6MHz
designator Y?, comment 6 MHz
Supplier 1: Farnell; Supplier Part Number 1: 2449403
footprint HC49
pins: 1, 2

## R0201
designator R?  value 0R  PACKAGE: 0201  VOLTAGE: 0V
footprint R0201
pins: 1, 2

## R0402
designator R?  value 0R  PACKAGE: 0402  VOLTAGE: 0V
footprint R0402
pins: 1, 2

## R0603
designator R?  value 0R  PACKAGE: 0603  VOLTAGE: 0V
footprint R0603
pins: 1, 2

## R0805
designator R?  value 0R  PACKAGE: 0805  VOLTAGE: 0V
footprint R0805
pins: 1, 2

## Reseau_res
designator R?, comment 4 x 100R
footprint Reseau_R_1206
pins: 1, 2, 3, 4, 5, 6, 7, 8

## Self
designator L?  value 0uH  (hidden comment: *)
footprint SELF
footprint R0402
pins: 1, 2

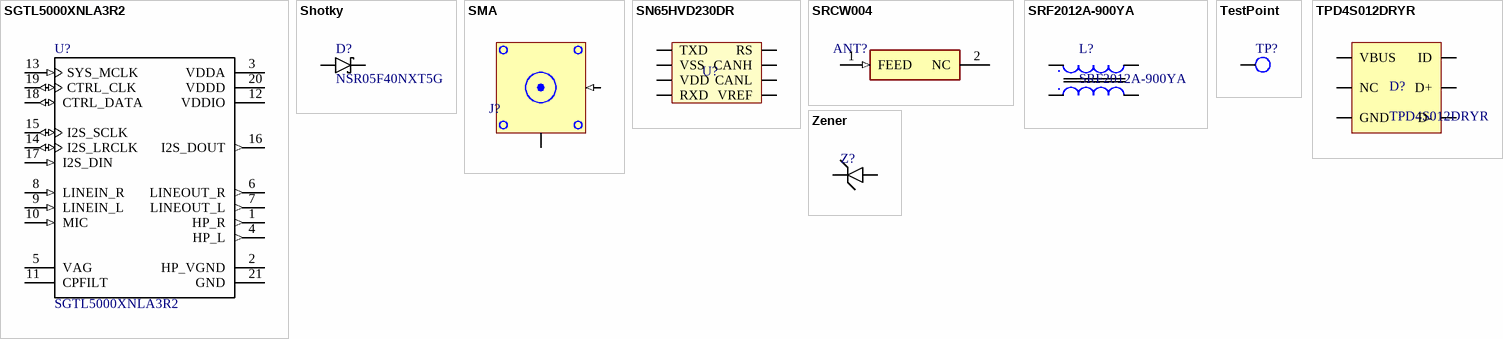
[diagram p6: symbols SGTL5000XNLA3R2 to Zener]

## SGTL5000XNLA3R2
designator U?
Audio Codec , Ultra Low-Power, 4 mw for DAC-to-HP, 98 dB SNR and -80 dB THD+N, QFN 32, Reel; MF: NXP USA; Digi-Key_Part_Number: 568-13255-1-ND; Digi-Key_Purchase_URL: https://www.digikey.com/product-detail/en/nxp-usa-inc/SGTL5000XNLA3R2/568-13255-1-ND/6576159?utm_source=snapeda&utm_medium=aggregator&utm_campaign=symbol; SnapEDA_Link: https://www.snapeda.com/parts/SGTL5000XNLA3R2/NXP%20USA%20Inc./view-part/?ref=snap; Package: QFN-20 NXP Semiconductors; MP: SGTL5000XNLA3R2; Value: *
footprint QFN40P300X300X60-21N
pins: 1 HP_R (out), 2 HP_VGND (power), 3 VDDA (power), 4 HP_L (out), 5 VAG, 6 LINEOUT_R (out), 7 LINEOUT_L (out), 8 LINEIN_R (in), 9 LINEIN_L (in), 10 MIC (in), 11 CPFILT, 12 VDDIO (power), 13 SYS_MCLK (in), 14 I2S_LRCLK (io), 15 I2S_SCLK (io), 16 I2S_DOUT (out), 17 I2S_DIN (in), 18 CTRL_DATA (io), 19 CTRL_CLK (io), 20 VDDD (power), 21 GND (power)

## Shotky
designator D?, comment NSR05F40NXT5G
footprint DSN2
pins: 1 K, 2 A

## SMA
designator J?  (value not drawn)
footprint SMA
pins: 1 (in), 2 GND

## SN65HVD230DR
designator U?  (value not drawn)
footprint SOIC 8
pins: 1 TXD, 2 VSS, 3 VDD, 4 RXD, 5 VREF, 6 CANL, 7 CANH, 8 RS

## SRCW004
designator ANT?  (value not drawn)
Antenna; Manufacturer_Name: Antenova; Manufacturer_Part_Number: SRCW004; Datasheet Link: https://componentsearchengine.com/Datasheets/1/SRCW004.pdf; Mouser Part Number: 237-SRCW004; Mouser Price/Stock: https://www.mouser.com/Search/Refine.aspx?Keyword=237-SRCW004
footprint SRCW004
pins: 1 FEED (in), 2 NC

## SRF2012A-900YA
designator L?
footprint EMI_SP
pins: 1, 2, 3, 4

## TestPoint
designator TP?  (value not drawn)
footprint TESTPOINT
pins: 1

## TPD4S012DRYR
designator D?
footprint SON6
pins: 1 D+, 2 D-, 3 ID, 4 GND, 5 NC, 6 VBUS

## Zener
designator Z?  (value not drawn)
footprint Zener
pins: 1 A, 2 K